# Altium schematic symbol library 74HC238D.SchLib: 1 symbol
Pins are listed as number, name and electrical type; pins without a type are passive.

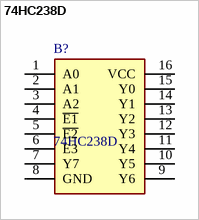
[diagram p0: symbol 74HC238D]

## 74HC238D
designator B?
Codeurs, dcodeurs, multiplexeurs et dmultiplexeurs 3-TO-8 DECODER DEMULTIPLEXER; Manufacturer_Name: Nexperia; Geometry.Height: 1.75mm; Mouser Part Number: 771-74HC238D; Mouser Price/Stock: https://www.mouser.co.uk/ProductDetail/Nexperia/74HC238D?qs=JTOGeJziEKGZLH3gr9jJBw%3D%3D; Manufacturer_Part_Number: 74HC238D; Datasheet Link: https://assets.nexperia.com/documents/data-sheet/74HC_HCT238.pdf
footprint SOIC127P600X175-16N
pins: 1 A0, 2 A1, 3 A2, 4 ~{E1}, 5 ~{E2}, 6 E3, 7 Y7, 8 GND, 9 Y6, 10 Y5, 11 Y4, 12 Y3, 13 Y2, 14 Y1, 15 Y0, 16 VCC